# Altium footprint library remap.PcbLib: 2 footprints
Each footprint in its own frame and in the unit in brackets; x right, y up, seen from the top. Pads: shape width x height; smd on the part's side, far side on the other; paste and mask are expansions set on the pad; w line width, h text height; cw(c..) or ccw(c..) is an arc to the next point about the centre after c.
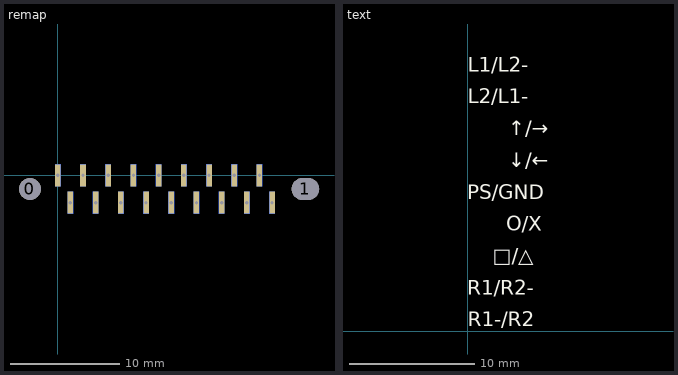
[diagram p0: the footprints below, top view; thin cyan lines are the x and y axes]

## remap [mil] "角间距91mil 孔离角64mil"
pads (38):
  round 78.74 hole 78.74: 0(-100.73,-49.21)
  oval 98.43x78.74 hole 78.74 slot 98.43 at 0 deg: 1(893.71,-49.21)
  rect 20x80 smd: A1(0,0) A2(45.5,-98.43) A3(91,0) A4(136.5,-98.43) A5(182,0) A6(227.5,-98.43) A7(273,0) A8(318.5,-98.43) A9(364,0) A10(409.5,-98.43) A11(455,0) A12(500.5,-98.43) A13(546,0) A14(591.5,-98.43) A15(637,0) A16(682.5,-98.43) A17(728,0) A18(773.5,-98.43)
  rect 20x80 smd far side: B1(0,0) B2(45.5,-98.43) B3(91,0) B4(136.5,-98.43) B5(182,0) B6(227.5,-98.43) B7(273,0) B8(318.5,-98.43) B9(364,0) B10(409.5,-98.43) B11(455,0) B12(500.5,-98.43) B13(546,0) B14(591.5,-98.43) B15(637,0) B16(682.5,-98.43) B17(728,0) B18(773.5,-98.43)
via 455,0 diameter 20 hole 12
via 773.5,-98.43 diameter 20 hole 12
via 728,0 diameter 20 hole 12
via 682.5,-98.43 diameter 20 hole 12
via 637,0 diameter 20 hole 12
via 591.5,-98.43 diameter 20 hole 12
via 546,0 diameter 20 hole 12
via 500.5,-98.43 diameter 20 hole 12
via 409.5,-98.43 diameter 20 hole 12
via 318.5,-98.43 diameter 20 hole 12
via 364,0 diameter 20 hole 12
via 273,0 diameter 20 hole 12
via 227.5,-98.43 diameter 20 hole 12
via 136.5,-98.43 diameter 20 hole 12
via 182,0 diameter 20 hole 12
via 91,0 diameter 20 hole 12
via 45.5,-98.43 diameter 20 hole 12
via 0,0 diameter 20 hole 12

## text [mil] "间距 10mil"
Top Overlay:
  text "R1-/R2" at 0,0 h78.74
  text "L1/L2-" at -0.66,800 h78.74
  text "L2/L1-" at -0.66,700 h78.74
  text "↑/→" at 126.7,600 h78.74
  text "↓/←" at 126.7,500 h78.74
  text "PS/GND" at -2.41,400.16 h78.74
  text "O/X" at 119.92,300 h78.74
  text "□/△" at 78.66,200 h78.74
  text "R1/R2-" at -2.04,100 h78.74